# Altium integrated library TDA2009A.IntLib: 1 symbol
Pins are listed as number, name and electrical type; pins without a type are passive.

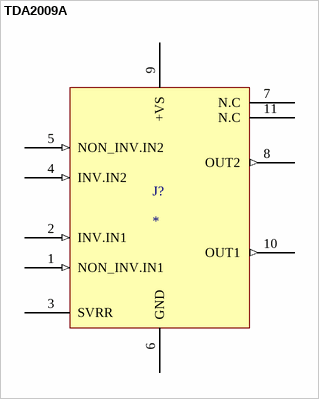
[diagram p0: symbol TDA2009A]

## TDA2009A
designator J?
TDA2009 Series 28 V Dual Channel Stereo Audio Power Amplifier - MULTIWATT-11; MP: TDA2009A; Package: None; Price: None; Value: *; Availability: Unavailable
footprint AMP_TDA2009A
pins: 1 NON_INV.IN1 (in), 2 INV.IN1 (in), 3 SVRR, 4 INV.IN2 (in), 5 NON_INV.IN2 (in), 6 GND (power), 7 N.C, 8 OUT2 (out), 9 +VS (power), 10 OUT1 (out), 11 N.C